# EAGLE library part VN200 (library vectornav)
VectorNav VN-200 Inertial Navigation System (INS) sensor.
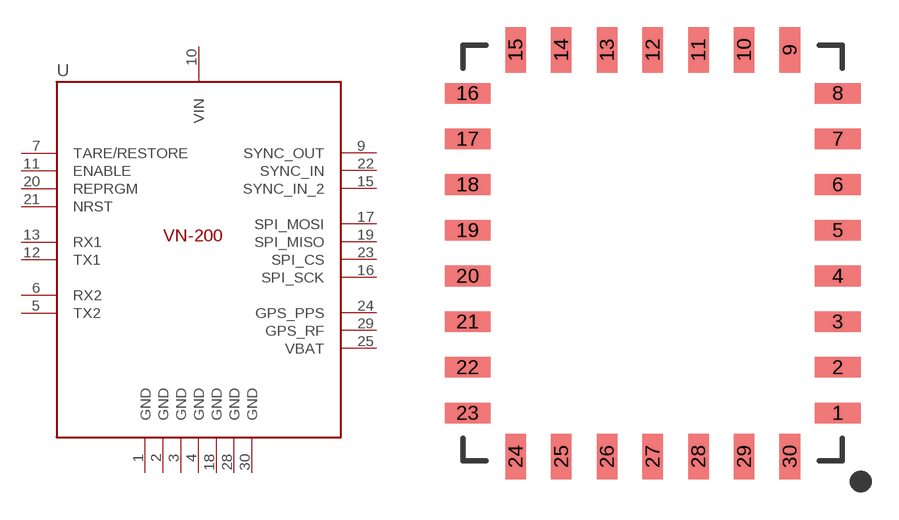
[diagram p1: symbol with the pads of 7X8CASTLE; footprint 7X8CASTLE]

Designator prefix -

## VN200NORMAL  [7X8CASTLE]
1  GND  pwr
2  GND  pwr
3  GND  pwr
4  GND  pwr
5  TX2  out
6  RX2  in
7  TARE/RESTORE  in
9  SYNC_OUT  out
10  VIN  pwr
11  ENABLE  in
12  TX1  out
13  RX1  in
15  SYNC_IN_2  in
16  SPI_SCK  in
17  SPI_MOSI  in
18  GND  pwr
19  SPI_MISO  out
20  REPRGM  in
21  NRST  in
22  SYNC_IN  in
23  SPI_CS  in
24  GPS_PPS  in
25  VBAT  pwr
28  GND  pwr
29  GPS_RF  in
30  GND  pwr

## Footprint 7X8CASTLE (pad centres in mm)
7x8 0.1" Pitch Castellated PCB for Surface Mounting
smd 2.54 x 1.143: 1 10.16,-8.89; 2 10.16,-6.35; 3 10.16,-3.81; 4 10.16,-1.27; 5 10.16,1.27; 6 10.16,3.81; 7 10.16,6.35; 8 10.16,8.89; 16 -10.414,8.89; 17 -10.414,6.35; 18 -10.414,3.81; 19 -10.414,1.27; 20 -10.414,-1.27; 21 -10.414,-3.81; 22 -10.414,-6.35; 23 -10.414,-8.89
smd 1.143 x 2.54: 9 7.493,11.303; 10 4.953,11.303; 11 2.413,11.303; 12 -0.127,11.303; 13 -2.667,11.303; 14 -5.207,11.303; 15 -7.747,11.303; 24 -7.747,-11.303; 25 -5.207,-11.303; 26 -2.667,-11.303; 27 -0.127,-11.303; 28 2.413,-11.303; 29 4.953,-11.303; 30 7.493,-11.303